# EAGLE library part MAX6817 (library RoboJackets-ICs)
Switch Debouncer DigiKey <https://www.digikey.com/en/products/detail/maxim-integrated/MAX6817EUT-T/774085>
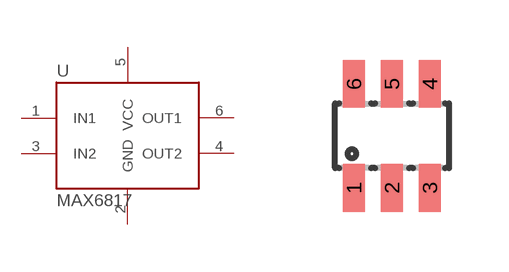
[diagram p1: symbol with the pads of SOT-23-6; footprint SOT-23-6]

Designator prefix U

## MAX6817 (DKPN: MAX6817EUT+TCT-ND)  [SOT-23-6]
1  IN1
2  GND
3  IN2
4  OUT2
5  VCC
6  OUT1

## Footprint SOT-23-6 (pad centres in mm)
SOT-23-6
smd 0.55 x 1.2: 1 -0.95,-1.3; 2 0,-1.3; 3 0.95,-1.3; 4 0.95,1.3; 5 0,1.3; 6 -0.95,1.3